# Altium footprint library SOP4 Vishay.PcbLib: 1 footprints
Each footprint in its own frame and in the unit in brackets; x right, y up, seen from the top. Pads: shape width x height; smd on the part's side, far side on the other; paste and mask are expansions set on the pad; w line width, h text height; cw(c..) or ccw(c..) is an arc to the next point about the centre after c.
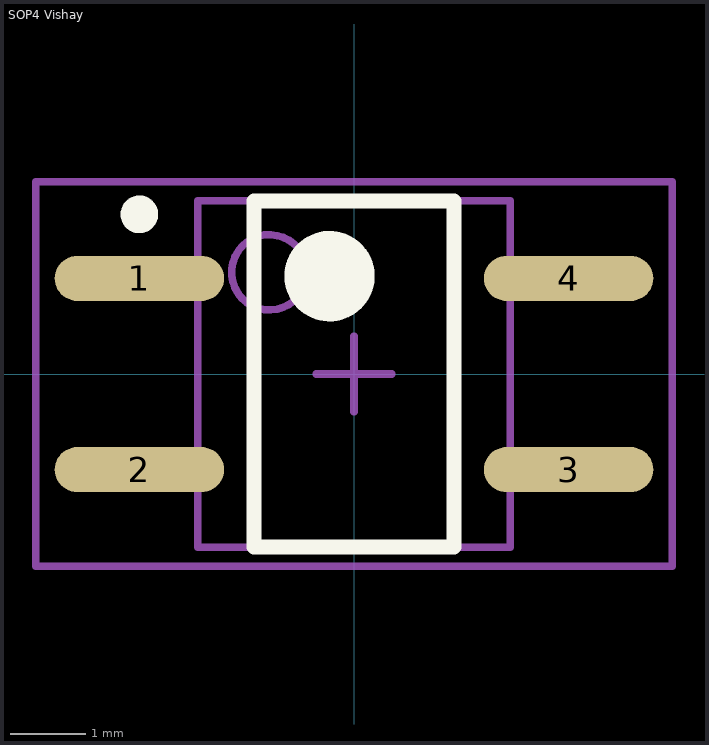
[diagram p0: the footprint, top view; thin cyan lines are the x and y axes]

## SOP4 Vishay [mm] "SOP, 4-Leads, Body 4,6x4,2mm (max), Pitch 2,54mm, IPC Medium Density"
height 2.4
pads (4):
  oval 2.25x0.6 smd: 1(-2.85,1.27) 2(-2.85,-1.27) 3(2.85,-1.27) 4(2.85,1.27)
Top Overlay:
  circle w0.6: c-0.325,1.3 r0.3
  circle w0.25: c-2.85,2.12 r0.125
  lines w0.2: -1.325,-2.3 1.325,-2.3 1.325,2.3 -1.325,2.3 -1.325,-2.3
Mechanical 13:
  circle w0.1: c-1.125,1.35 r0.5
  lines w0.1: -2.075,-2.3 2.075,-2.3 2.075,2.3 -2.075,2.3 -2.075,-2.3
Mechanical 15:
  lines w0.1: -0.5,0 0.5,0 ; 0,-0.5 0,0.5 ; -4.225,-2.55 4.225,-2.55 4.225,2.55 -4.225,2.55 -4.225,-2.55
3D body: height 2.4, standoff 0, extent -2.075,-2.3 2.075,2.3